# Altium integrated library NXP_60_26022015.IntLib: 1306 symbols (part 28 of 28)
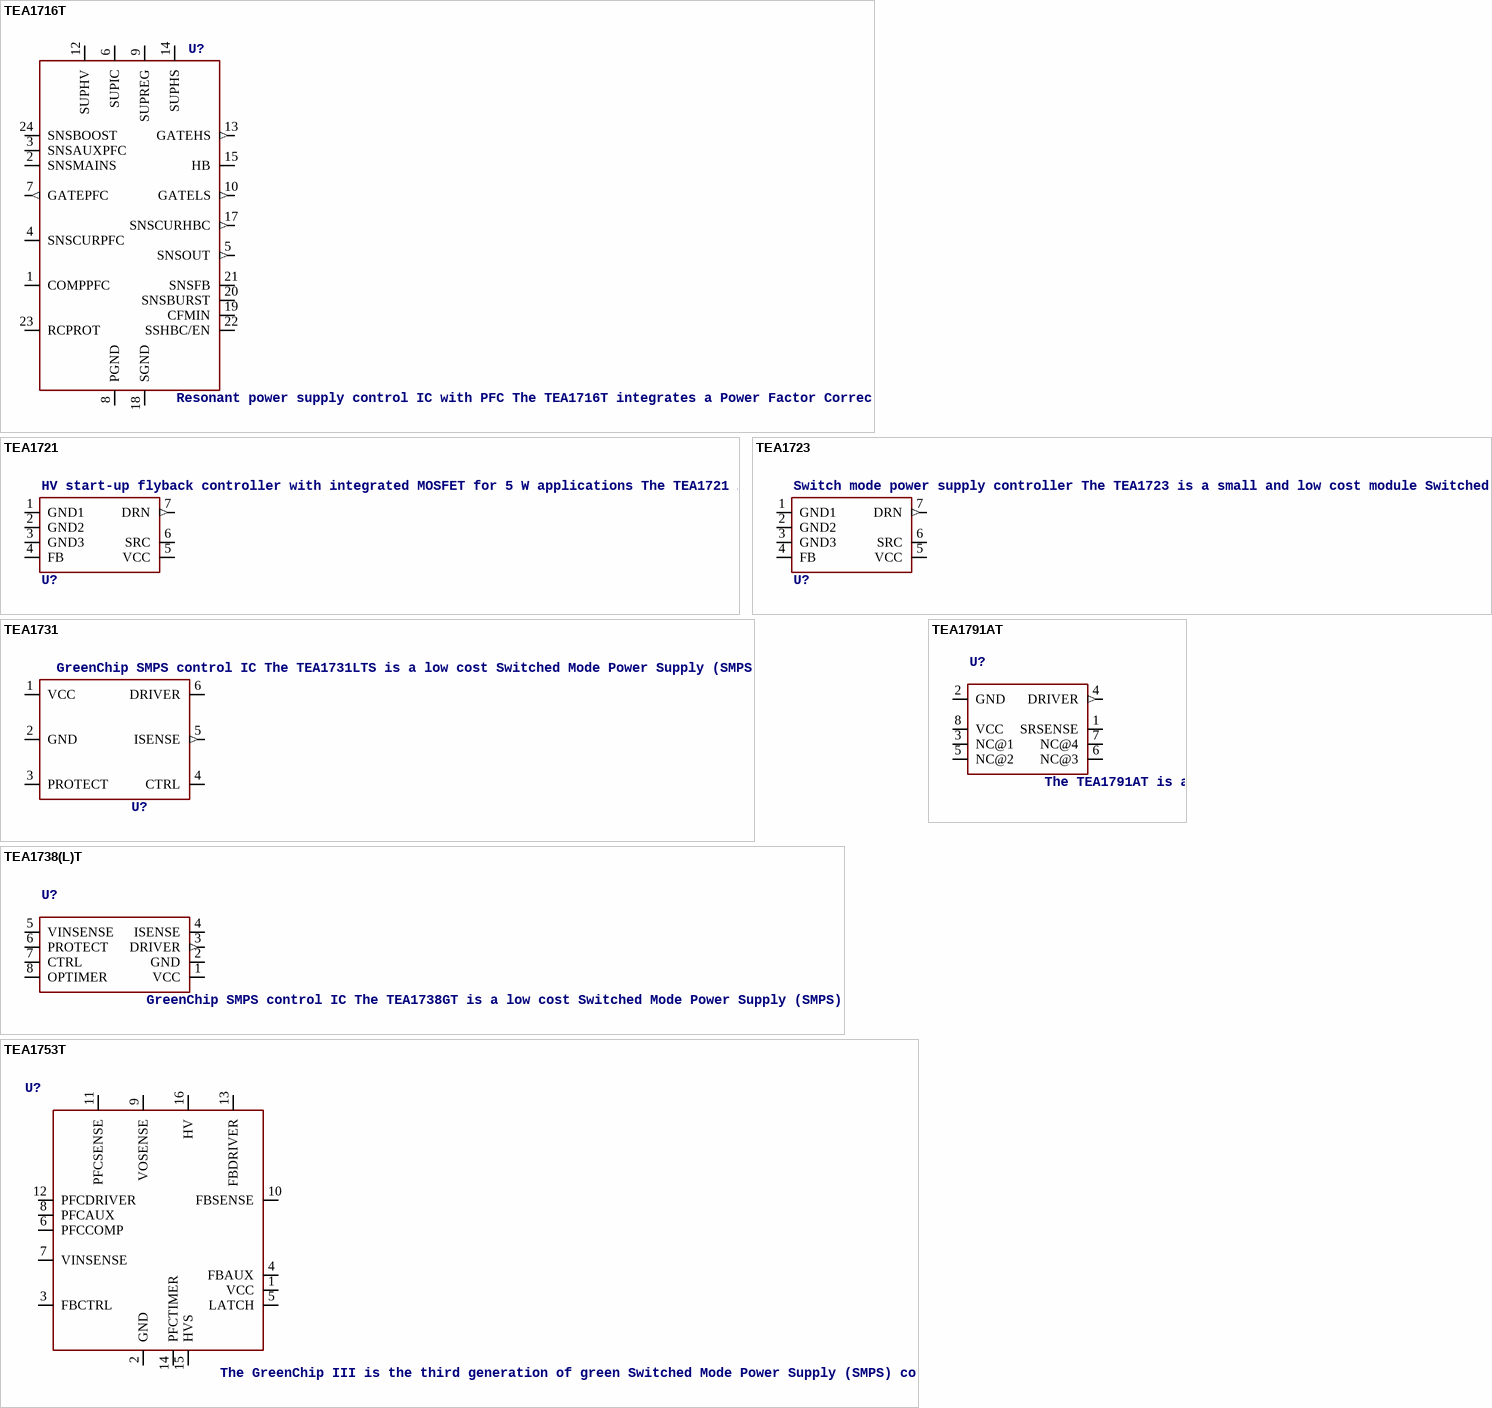
[diagram p212: symbols TEA1716T to TEA1791AT]

## TEA1753T
designator U?, comment The GreenChip III is the third generation of green Switched Mode Power Supply (SMPS) controller ICs. The GreenChip III combines a controller for Power Factor Correction (PFC) and a flyback controller. Its high level of integration allows the design of a cost-effective power supply with a very low number of external components.   AAL Eindhoven MK
12NC: 9352 932 05518
footprint SOT109-1
pins: 1 VCC, 2 GND, 3 FBCTRL, 4 FBAUX, 5 LATCH, 6 PFCCOMP, 7 VINSENSE, 8 PFCAUX, 9 VOSENSE, 10 FBSENSE, 11 PFCSENSE, 12 PFCDRIVER, 13 FBDRIVER, 14 PFCTIMER, 15 HVS, 16 HV

## TEA1791AT
designator U?, comment The TEA1791AT is a member of the new generation of Synchronous Rectifier (SR) controller ICs for switched mode power supplies. Its high level of integration allows the design of a cost-effective power supply with a very low number of external components.   AAL Eindhoven MK
12NC: 9352 901 57118
footprint SOT96-1
pins: 1 SRSENSE, 2 GND (power), 3 NC@1, 4 DRIVER (out), 5 NC@2, 6 NC@3, 7 NC@4, 8 VCC (power)

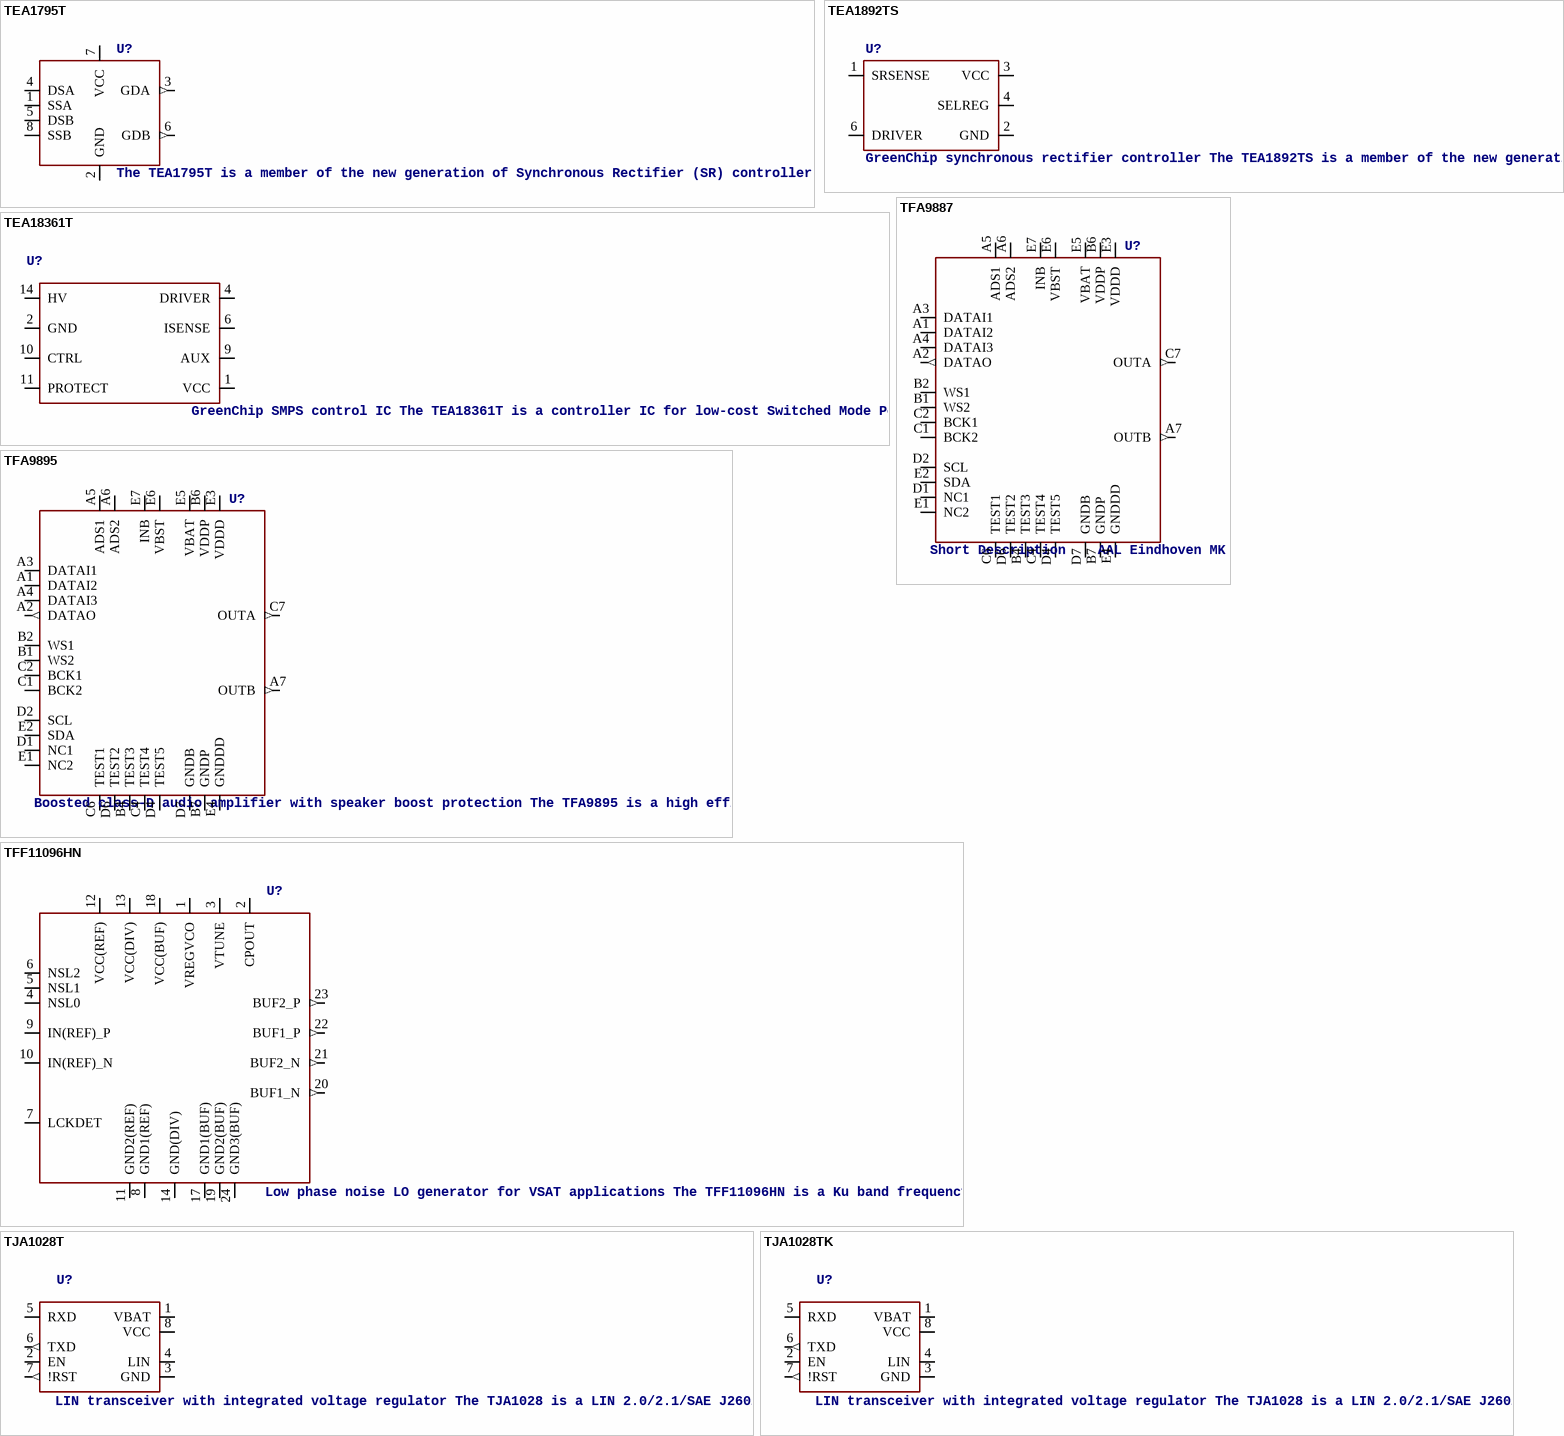
[diagram p182: symbols TEA1795T to TJA1028TK]

## TEA1795T
designator U?, comment The TEA1795T is a member of the new generation of Synchronous Rectifier (SR) controller ICs for switched mode power supplies. Its high level of integration enables the design of a cost-effective power supply with a minimum number of external components.   AAL Eindhoven MK
12NC: 9352 915 64118
footprint SOT96-1
pins: 1 SSA, 2 GND (power), 3 GDA (out), 4 DSA, 5 DSB, 6 GDB (out), 7 VCC (power), 8 SSB

## TEA1892TS
designator U?, comment GreenChip synchronous rectifier controller The TEA1892TS is a member of the new generation of Synchronous Rectifier (SR) controller ICs for switched mode power supplies. Its high level of integration allows the design of a cost-effective power supply with a very low number of external components. The TEA1892TS is a controller IC dedicated to synchronous rectification on the secondary side of discontinuous conduction mode and quasi-resonant flyback converters. The TEA1892TS is fabricated in a Silicon-On-Insulator (SOI) process.    AAL Eindhoven MK
footprint SOT457
pins: 1 SRSENSE, 2 GND (power), 3 VCC (power), 4 SELREG, 6 DRIVER

## TEA18361T
designator U?, comment GreenChip SMPS control IC The TEA18361T is a controller IC for low-cost Switched Mode Power Supplies (SMPS). It is intended for flyback topologies. The built-in green functions provide high efficiency at all power levels. At high power levels the flyback operates in Quasi-Resonant (QR) mode. At lower power levels, the controller switches to Frequency Reduction (FR) or Discontinuous Conduction Mode (DCM) and limits the peak current to approximately 25 % of the maximum peak current. Valley switching is used in all operating modes. At low power levels, when the flyback switching frequency drops below 25 kHz, the flyback converter switches to burst mode. A special burst mode has been integrated which reduces the opto current to a minimum level, ensuring high efficiency at low power and excellent no load power performance. As the switching frequency in this mode has a minimum value of 25 kHz while the burst frequency is below 800 Hz, the frequencies are outside the audible range. During the non-switching phase of the burst mode, the internal IC supply current is minimized for further efficiency optimization. The TEA18361T includes an accurate OverPower Protection (OPP). The OPP enables the controller to operate in overpower situations for a limited amount of time. If the output is shorted, the system switches to low-power mode where the output power is limited to a lower level. The TEA18361T is manufactured in a high-voltage Silicon-On-Insulator (SOI) process. The SOI process combines the advantages of a low-voltage process (accuracy, high-speed protection, functions, and control), while maintaining the high-voltage capabilities (high-voltage start-up, low standby power, and an integrated X-capacitor discharge function). The TEA18361T enables low-cost, highly efficient and reliable supplies for power requirements up to 75 W to be designed with a minimum number of external components.    AAL Eindhoven MK
footprint SOT108-1
pins: 1 VCC, 2 GND, 4 DRIVER, 6 ISENSE, 9 AUX, 10 CTRL, 11 PROTECT, 14 HV

## TFA9887
designator U?, comment Short Description    AAL Eindhoven MK
footprint WLCSP29
pins: A1 DATAI2, A2 DATAO (out), A3 DATAI1, A4 DATAI3, A5 ADS1, A6 ADS2, A7 OUTB (out), B1 WS2, B2 WS1, B4 TEST3, B6 VDDP (power), B7 GNDP (power), C1 BCK2, C2 BCK1, C4 TEST4, C6 TEST1, C7 OUTA (out), D1 NC1, D2 SCL, D4 TEST5, D6 TEST2, D7 GNDB (power), E1 NC2, E2 SDA, E3 VDDD (power), E4 GNDDD (power), E5 VBAT (power), E6 VBST (power), E7 INB (power)

## TFA9895
designator U?, comment Boosted class-D audio amplifier with speaker boost protection The TFA9895 is a high efficiency class-D audio amplifier with a sophisticated speaker boost protection algorithm that features multi-band compression. It can deliver 2.65 W (RMS; THD = 1 %) output power into a 4  speaker at a battery voltage of 3.6 V. The internal boost converter raises the supply voltage to 5.3 V, providing ample headroom for major improvements in sound quality. A safe working environment is provided for the speaker under all operating conditions. The TFA9895 maximizes acoustic output while ensuring diaphragm displacement and voice coil temperature do not exceed their rated limits. This function is based on a speaker box model that operates in all loudspeaker environments (e.g. free air, closed box or vented box). Furthermore, advanced signal processing ensures that the quality of the audio signal is never degraded by unwanted clipping or distortion in the amplifier or speaker. Unlike competing solutions, the adaptive sound maximizer algorithm uses feedback to accurately calculate both the temperature and the excursion, allowing the TFA9895 to adapt to changes in the acoustic environment. Internal intelligent DC-to-DC conversion boosts the supply rail to provide additional headroom and power output. The supply voltage is only raised when necessary. This precaution maximizes the output power of the class-D audio amplifier while limiting quiescent power consumption. The multi-band processing improves audio quality and apparent volume by allowing the gain to remain stable in most of the signal while the protection reacts to only those portions that would be unsafe. The TFA9895 also adds a high-frequency noise gate that improves the sound of poor-quality audio sources. The TFA9895 also incorporates advanced battery protection. By limiting the supply current when the battery voltage is low, it prevents the audio system drawing excessive load currents from the battery, which could cause a system undervoltage. The advanced processor minimizes the impact of a falling battery voltage on the audio quality by preventing distortion as the battery discharges. The device features low RF susceptibility because it has a digital input interface that is insensitive to clock jitter. The second order closed loop architecture used in a class-D audio amplifier provides excellent audio performance and high supply voltage ripple rejection. The audio input interface is I2S and the control settings are communicated via an I2C-bus interface. The TFA9895 is available in a 29-bump WLCSP (Wafer Level Chip-Size Package) with a 400 m pitch.    AAL Eindhoven MK
footprint WLCSP29
pins: A1 DATAI2, A2 DATAO (out), A3 DATAI1, A4 DATAI3, A5 ADS1, A6 ADS2, A7 OUTB (out), B1 WS2, B2 WS1, B4 TEST3, B6 VDDP (power), B7 GNDP (power), C1 BCK2, C2 BCK1, C4 TEST4, C6 TEST1, C7 OUTA (out), D1 NC1, D2 SCL, D4 TEST5, D6 TEST2, D7 GNDB (power), E1 NC2, E2 SDA, E3 VDDD (power), E4 GNDDD (power), E5 VBAT (power), E6 VBST (power), E7 INB (power)

## TFF11096HN
designator U?, comment Low phase noise LO generator for VSAT applications The TFF11096HN is a Ku band frequency generator intended for low phase noise Local Oscillator (LO) circuits for Ku band VSAT transmitters and transceivers. The specified phase noise complies with IESS-308 from Intelsat.    AAL Eindhoven MK
footprint SOT616-1
pins: 1 VREGVCO, 2 CPOUT, 3 VTUNE, 4 NSL0, 5 NSL1, 6 NSL2, 7 LCKDET, 8 GND1(REF) (power), 9 IN(REF)_P, 10 IN(REF)_N, 11 GND2(REF) (power), 12 VCC(REF) (power), 13 VCC(DIV) (power), 14 GND(DIV) (power), 17 GND1(BUF) (power), 18 VCC(BUF) (power), 19 GND2(BUF) (power), 20 BUF1_N (out), 21 BUF2_N (out), 22 BUF1_P (out), 23 BUF2_P (out), 24 GND3(BUF) (power)

## TJA1028T
designator U?, comment LIN transceiver with integrated voltage regulator The TJA1028 is a LIN 2.0/2.1/SAE J2602 transceiver with an integrated low-drop voltage regulator. The voltage regulator can deliver up to 70 mA and is available in 3.3 V and 5.0 V variants. TJA1028 facilitates the development of compact nodes in Local Interconnect Network (LIN) bus systems. To support robust designs, the TJA1028 offers strong ElectroStatic Discharge (ESD) performance and can withstand high voltages on the LIN bus. In order to minimize current consumption, the TJA1028 supports a Sleep mode in which the LIN transceiver and the voltage regulator are powered down while still having wake-up capability via the LIN bus. The TJA1028 comes in an SO8 package, and also in a 3 mm  3 mm HVSON8 package that reduces the required board space by over 70 %. This feature can prove extremely valuable when board space is limited.    AAL Eindhoven MK
footprint SOT96-1
pins: 1 VBAT (power), 2 EN, 3 GND (power), 4 LIN, 5 RXD, 6 TXD (out), 7 !RST (out), 8 VCC (power)

## TJA1028TK
designator U?, comment LIN transceiver with integrated voltage regulator The TJA1028 is a LIN 2.0/2.1/SAE J2602 transceiver with an integrated low-drop voltage regulator. The voltage regulator can deliver up to 70 mA and is available in 3.3 V and 5.0 V variants. TJA1028 facilitates the development of compact nodes in Local Interconnect Network (LIN) bus systems. To support robust designs, the TJA1028 offers strong ElectroStatic Discharge (ESD) performance and can withstand high voltages on the LIN bus. In order to minimize current consumption, the TJA1028 supports a Sleep mode in which the LIN transceiver and the voltage regulator are powered down while still having wake-up capability via the LIN bus. The TJA1028 comes in an SO8 package, and also in a 3 mm  3 mm HVSON8 package that reduces the required board space by over 70 %. This feature can prove extremely valuable when board space is limited.    AAL Eindhoven MK
footprint SOT782-1
pins: 1 VBAT (power), 2 EN, 3 GND (power), 4 LIN, 5 RXD, 6 TXD (out), 7 !RST (out), 8 VCC (power)

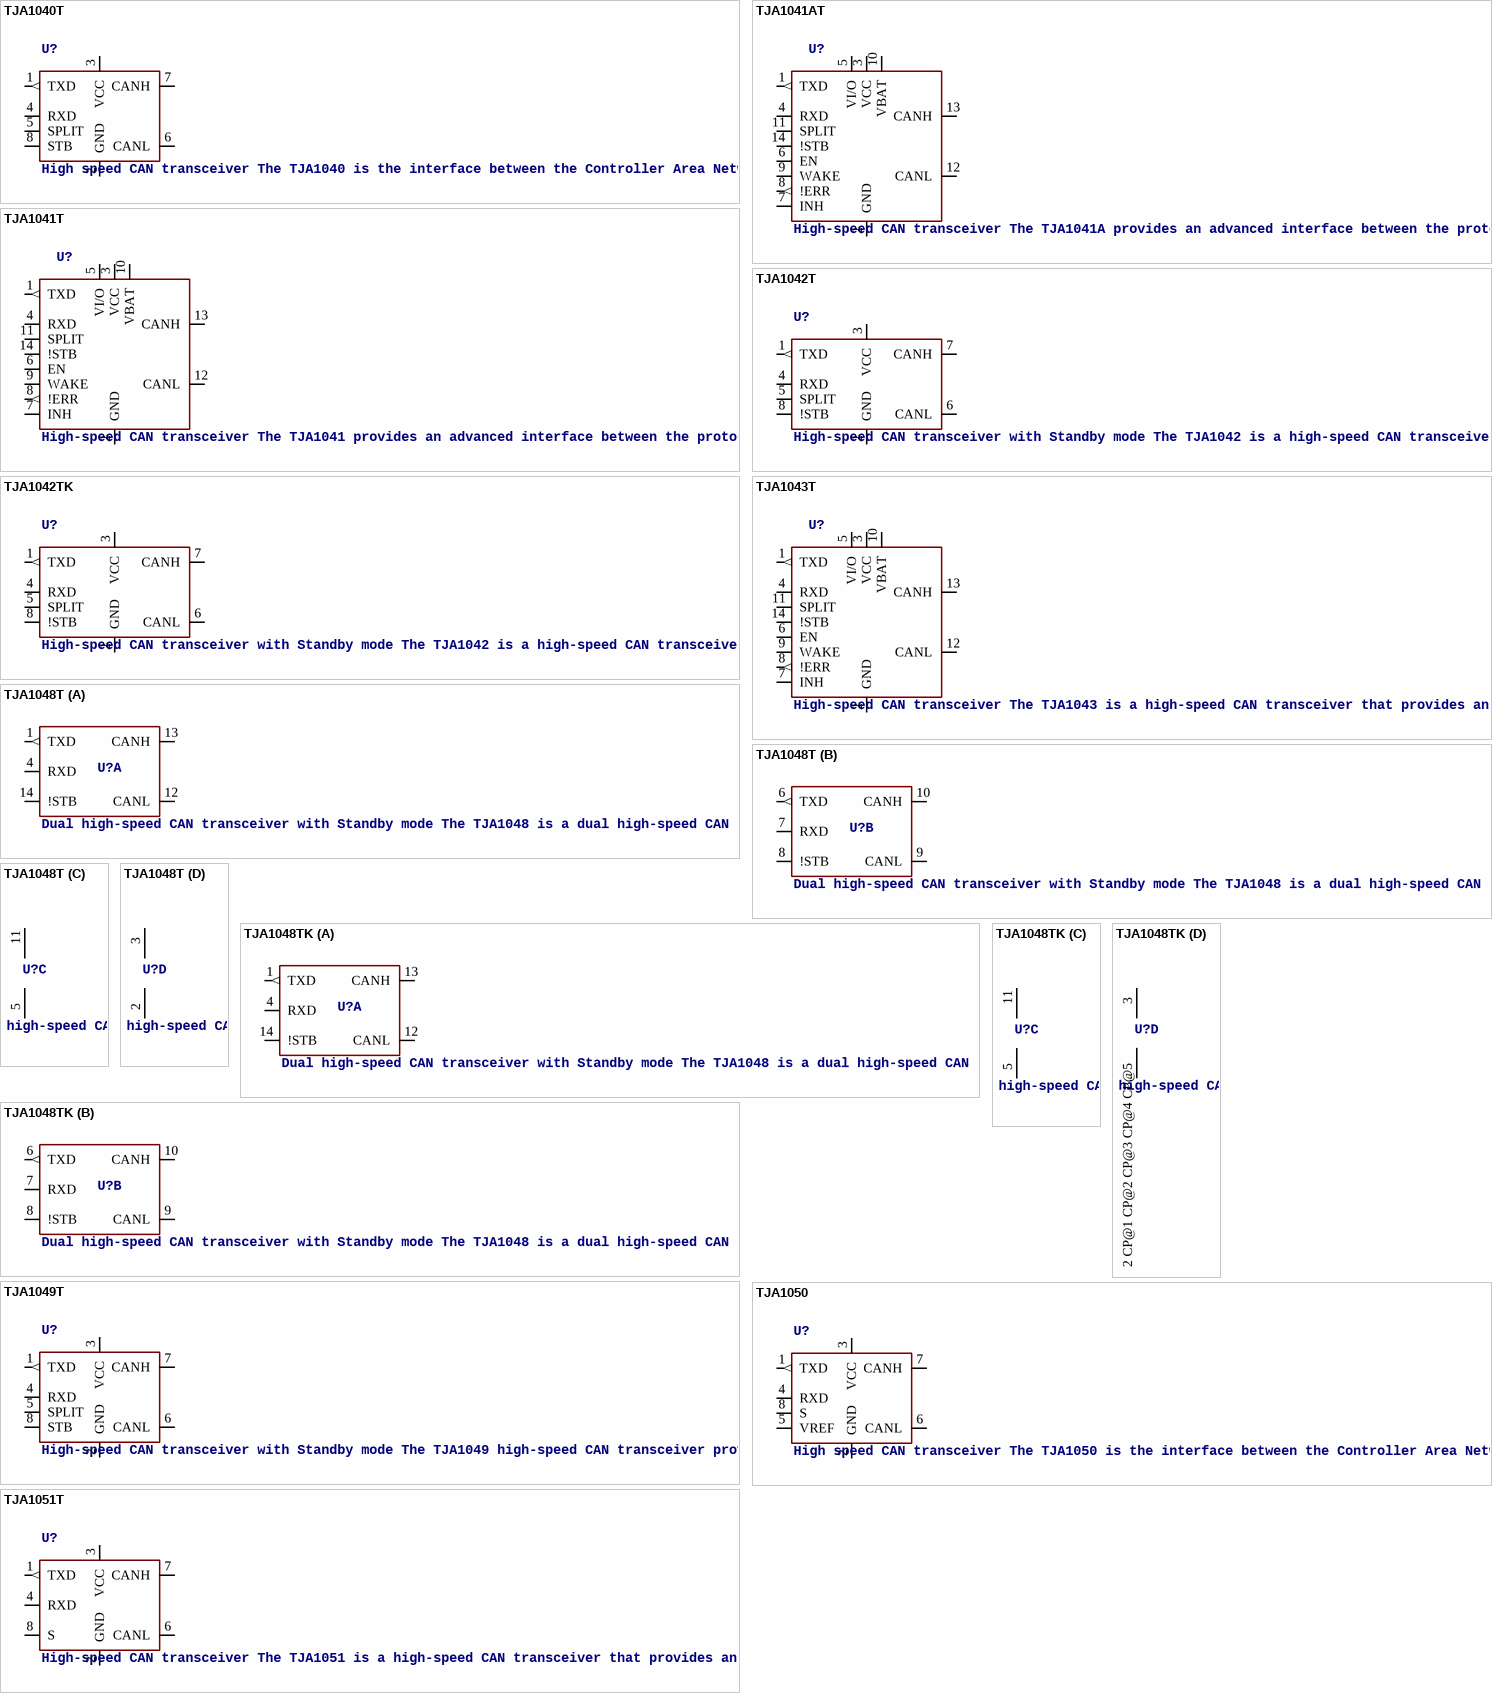
[diagram p183: symbols TJA1040T to TJA1051T]

## TJA1040T
designator U?, comment High speed CAN transceiver The TJA1040 is the interface between the Controller Area Network (CAN) protocol controller and the physical bus. It is primarily intended for high speed applications, up to 1 MBaud, in passenger cars. The device provides differential transmit capability to the bus and differential receive capability to the CAN controller. The TJA1040 is the next step up from the TJA1050 high speed CAN transceiver. Being pin compatible and offering the same excellent EMC performance, the TJA1040 also features:  An ideal passive behaviour when supply voltage is off  A very low-current standby mode with remote wake-upcapability via the bus.    This makes the TJA1040 an excellent choice in nodes which can be in power-down or standby mode in partially powered networks.    AAL Eindhoven MK
footprint SOT96-1
pins: 1 TXD (out), 2 GND, 3 VCC, 4 RXD, 5 SPLIT (power), 6 CANL, 7 CANH, 8 STB

## TJA1041AT
designator U?, comment High-speed CAN transceiver The TJA1041A provides an advanced interface between the protocol controller and the physical bus in a Controller Area Network (CAN) node. The TJA1041A is primarily intended for automotive high-speed CAN applications (up to 1 Mbit/s). The transceiver provides differential transmit capability to the bus and differential receive capability to the CAN controller. The TJA1041A is fully compatible to the ISO 11898 standard, and offers excellent ElectroMagnetic Compatibility (EMC) performance, very low power consumption, and passive behavior when supply voltage is off. The advanced features include: Low-power management, supporting local and remote wake-up with wake-up source recognition and the capability to control the power supply in the rest of the node  Several protection and diagnosis functions including short circuits of the bus lines and ﬁrst battery connection  Automatic adaptation of the I/O-levels, in line with the supply voltage of the controller      AAL Eindhoven MK
footprint SOT108-1
pins: 1 TXD (out), 2 GND (power), 3 VCC (power), 4 RXD, 5 VI/O (power), 6 EN, 7 INH, 8 !ERR (out), 9 WAKE, 10 VBAT (power), 11 SPLIT (power), 12 CANL, 13 CANH, 14 !STB

## TJA1041T
designator U?, comment High-speed CAN transceiver The TJA1041 provides an advanced interface between the protocol controller and the physical bus in a Controller Area Network (CAN) node. The TJA1041 is primarily intended for automotive high-speed CAN applications (up to 1 Mbit/s). The transceiver provides differential transmit capability to the bus and differential receive capability to the CAN controller. The TJA1041 is fully compatible to the ISO 11898 standard, and offers excellent ElectroMagnetic Compatibility (EMC) performance, very low power consumption, and passive behavior when supply voltage is off. The advanced features include: Low-power management, supporting local and remote wake-up with wake-up source recognition and the capability to control the power supply in the rest of the node  Several protection and diagnosis functions including short circuits of the bus lines and ﬁrst battery connection  Automatic adaptation of the I/O-levels, in line with the supply voltage of the controller      AAL Eindhoven MK
footprint SOT108-1
pins: 1 TXD (out), 2 GND (power), 3 VCC (power), 4 RXD, 5 VI/O (power), 6 EN, 7 INH, 8 !ERR (out), 9 WAKE, 10 VBAT (power), 11 SPLIT (power), 12 CANL, 13 CANH, 14 !STB

## TJA1042T
designator U?, comment High-speed CAN transceiver with Standby mode The TJA1042 is a high-speed CAN transceiver that provides an interface between a Controller Area Network (CAN) protocol controller and the physical two-wire CAN bus. The transceiver is designed for high-speed (up to 1 Mbit/s) CAN applications in the automotive industry, providing the differential transmit and receive capability to (a microcontroller with) a CAN protocol controller. The TJA1042 belongs to the third generation of high-speed CAN transceivers from NXP Semiconductors, offering significant improvements over first- and second-generation devices such as the TJA1040. It offers improved ElectroMagnetic Compatibility (EMC) and ElectroStatic Discharge (ESD) performance, and also features: Ideal passive behavior to the CAN bus when the supply voltage is off  A very low-current Standby mode with bus wake-up capability  TJA1042T/3 and TJA1042TK/3 can be interfaced directly to microcontrollers with supply  voltages  from  3 V to 5 V   These features make the TJA1042 an excellent choice for all types of HS-CAN networks, in nodes that require a low-power mode with wake-up capability via the CAN bus.    AAL Eindhoven MK
footprint SOT96-1
pins: 1 TXD (out), 2 GND (power), 3 VCC (power), 4 RXD, 5 SPLIT (power), 6 CANL, 7 CANH, 8 !STB

## TJA1042TK
designator U?, comment High-speed CAN transceiver with Standby mode The TJA1042 is a high-speed CAN transceiver that provides an interface between a Controller Area Network (CAN) protocol controller and the physical two-wire CAN bus. The transceiver is designed for high-speed (up to 1 Mbit/s) CAN applications in the automotive industry, providing the differential transmit and receive capability to (a microcontroller with) a CAN protocol controller. The TJA1042 belongs to the third generation of high-speed CAN transceivers from NXP Semiconductors, offering significant improvements over first- and second-generation devices such as the TJA1040. It offers improved ElectroMagnetic Compatibility (EMC) and ElectroStatic Discharge (ESD) performance, and also features: Ideal passive behavior to the CAN bus when the supply voltage is off  A very low-current Standby mode with bus wake-up capability  TJA1042T/3 and TJA1042TK/3 can be interfaced directly to microcontrollers with supply  voltages  from  3 V to 5 V   These features make the TJA1042 an excellent choice for all types of HS-CAN networks, in nodes that require a low-power mode with wake-up capability via the CAN bus.    AAL Eindhoven MK
footprint SOT782-1
pins: 1 TXD (out), 2 GND (power), 3 VCC (power), 4 RXD, 5 SPLIT (power), 6 CANL, 7 CANH, 8 !STB

## TJA1043T
designator U?, comment High-speed CAN transceiver The TJA1043 is a high-speed CAN transceiver that provides an interface between a Controller Area Network (CAN) protocol controller and the physical two-wire CAN bus. The transceiver is designed for high-speed (up to 1 Mbit/s) CAN applications in the automotive industry, providing differential transmit and receive capability to (a microcontroller with) a CAN protocol controller. The TJA1043 belongs to the third generation of high-speed CAN transceivers from NXP Semiconductors, offering significant improvements over first- and second-generation devices such as the TJA1041A. It offers improved ElectroMagnetic Compatibility (EMC) and ElectroMagnetic Discharge (ESD) performance, very low power consumption, and passive behavior when the supply voltage is turned off. Advanced features include:  Low-power management controls the power supply throughout the node while supporting local and remote wake-up with wake-up source recognition  Several protection and diagnostic functions including bus line short-circuit detection and battery connection detection  Can be interfaced directly to microcontrollers with supply voltages from 3 V to 5 V   These features make the TJA1043 the ideal choice for high speed CAN networks containing nodes that need to be available all times, even when the internal VIO and VCC supplies are switched off.    AAL Eindhoven MK
footprint SOT108-1
pins: 1 TXD (out), 2 GND (power), 3 VCC (power), 4 RXD, 5 VI/O (power), 6 EN, 7 INH, 8 !ERR (out), 9 WAKE, 10 VBAT (power), 11 SPLIT (power), 12 CANL, 13 CANH, 14 !STB

## TJA1048T
designator U?, comment Dual high-speed CAN transceiver with Standby mode The TJA1048 is a dual high-speed CAN transceiver that provides an interface between a Controller Area Network (CAN) protocol controller and the physical two-wire CAN bus. The transceiver is designed for high-speed (up to 1 Mbit/s) CAN applications in the automotive industry, providing the differential transmit and receive capability to (a microcontroller with) a CAN protocol controller. The TJA1048 belongs to the third generation of high-speed CAN transceivers from NXP Semiconductors, offering significant improvements over first- and second-generation devices such as the TJA1040. It offers improved Electro Magnetic Compatibility (EMC) and ElectroStatic Discharge (ESD) performance, and also features: Ideal passive behavior to the CAN bus when the supply voltage is off  A very low-current Standby mode with bus wake-up capability on both channels  TJA1048T can be interfaced directly to microcontrollers with supply voltages from 3 V to 5 V   These features make the TJA1048 an excellent choice for all types of HS-CAN networks containing more than one HS-CAN interface that require a low-power mode with wake-up capability via the CAN bus, especially for Body Control and Gateway units.    AAL Eindhoven MK
footprint SOT108-1
part A pins: 1 TXD (out), 4 RXD, 12 CANL, 13 CANH, 14 !STB
part B pins: 6 TXD (out), 7 RXD, 8 !STB, 9 CANL, 10 CANH
part C pins: 5 GND (power), 11 VI/O (power)
part D pins: 2 GND (power), 3 VCC (power)

## TJA1048TK
designator U?, comment Dual high-speed CAN transceiver with Standby mode The TJA1048 is a dual high-speed CAN transceiver that provides an interface between a Controller Area Network (CAN) protocol controller and the physical two-wire CAN bus. The transceiver is designed for high-speed (up to 1 Mbit/s) CAN applications in the automotive industry, providing the differential transmit and receive capability to (a microcontroller with) a CAN protocol controller. The TJA1048 belongs to the third generation of high-speed CAN transceivers from NXP Semiconductors, offering significant improvements over first- and second-generation devices such as the TJA1040. It offers improved Electro Magnetic Compatibility (EMC) and ElectroStatic Discharge (ESD) performance, and also features: Ideal passive behavior to the CAN bus when the supply voltage is off  A very low-current Standby mode with bus wake-up capability on both channels  TJA1048T can be interfaced directly to microcontrollers with supply voltages from 3 V to 5 V   These features make the TJA1048 an excellent choice for all types of HS-CAN networks containing more than one HS-CAN interface that require a low-power mode with wake-up capability via the CAN bus, especially for Body Control and Gateway units.    AAL Eindhoven MK
footprint SOT1086-2
part A pins: 1 TXD (out), 4 RXD, 12 CANL, 13 CANH, 14 !STB
part B pins: 6 TXD (out), 7 RXD, 8 !STB, 9 CANL, 10 CANH
part C pins: 5 GND (power), 11 VI/O (power)
part D pins: 2 CP@1 CP@2 CP@3 CP@4 CP@5 GND (power), 3 VCC (power)

## TJA1049T
designator U?, comment High-speed CAN transceiver with Standby mode The TJA1049 high-speed CAN transceiver provides an interface between a Controller Area Network (CAN) protocol controller and the physical two-wire CAN bus. The transceiver is designed for high-speed (up to 1 Mbit/s) CAN applications in the automotive industry, supplying the differential transmit and receive capability to (a microcontroller with) a CAN protocol controller. The TJA1049 belongs to the third generation of high-speed CAN transceivers from NXP Semiconductors, offering significant improvements over first- and second-generation devices such as the TJA1040. It offers improved ElectroMagnetic Compatibility (EMC) and ElectroStatic Discharge (ESD) performance, and also features: Ideal passive behavior to the CAN bus when the supply voltage is off  A very low-current Standby mode with bus wake-up capability   These features make the TJA1049 an excellent choice for all types of HS-CAN networks, in nodes that require a low-power mode with wake-up capability via the CAN bus.    AAL Eindhoven MK
footprint SOT96-1
pins: 1 TXD (out), 2 GND, 3 VCC, 4 RXD, 5 SPLIT (power), 6 CANL, 7 CANH, 8 STB

## TJA1050
designator U?, comment High speed CAN transceiver The TJA1050 is the interface between the Controller Area Network (CAN) protocol controller and the physical bus. The device provides differential transmit capability to the bus and differential receive capability to the CAN controller. The TJA1050 is the third Philips high-speed CAN transceiver after the PCA82C250 and the PCA82C251. The most important differences are: Much lower electromagnetic emission due to optimal matching of the output signals CANH and CANL  Improved behaviour in case of an unpowered node  No standby mode.   This makes the TJA1050 eminently suitable for use in nodes that are in a power-down situation in partially powered networks.    AAL Eindhoven MK
footprint SOT96-1
pins: 1 TXD (out), 2 GND, 3 VCC, 4 RXD, 5 VREF, 6 CANL, 7 CANH, 8 S (power)

## TJA1051T
designator U?, comment High-speed CAN transceiver The TJA1051 is a high-speed CAN transceiver that provides an interface between a Controller Area Network (CAN) protocol controller and the physical two-wire CAN bus. The transceiver is designed for high-speed (up to 1 Mbit/s) CAN applications in the automotive industry, providing differential transmit and receive capability to (a microcontroller with) a CAN protocol controller. The TJA1051 belongs to the third generation of high-speed CAN transceivers from NXP Semiconductors, offering significant improvements over first- and second-generation devices such as the TJA1050. It offers improved ElectroMagnetic Compatibility (EMC) and ElectroStatic Discharge (ESD) performance, and also features: Ideal passive behavior to the CAN bus when the supply voltage is off  TJA1051T/3 and TJA1051TK/3 can be interfaced directly to microcontrollers with supply  voltages  from  3 V to 5 V   These features make the TJA1051 an excellent choice for all types of HS-CAN networks, in nodes that do not require a standby mode with wake-up capability via the bus.    AAL Eindhoven MK
footprint SOT96-1
pins: 1 TXD (out), 2 GND, 3 VCC, 4 RXD, 6 CANL, 7 CANH, 8 S (power)

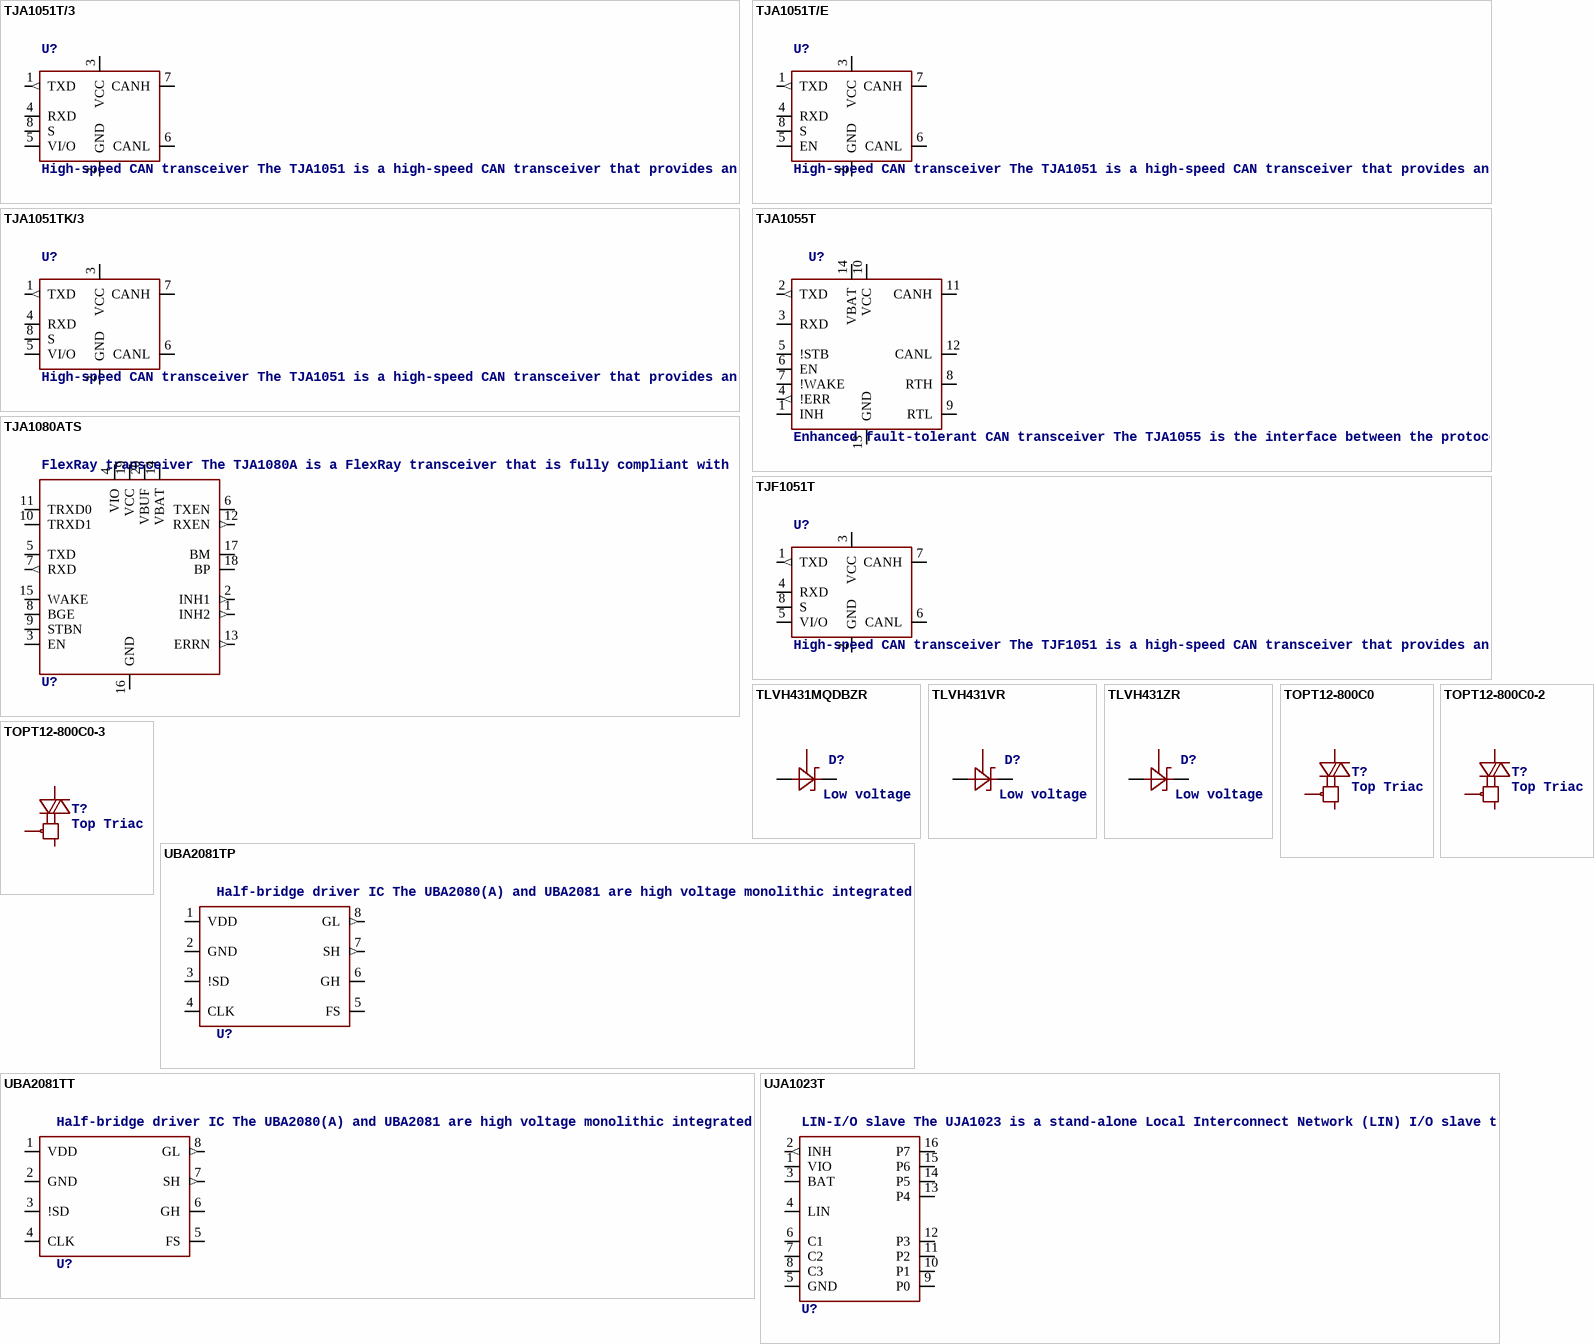
[diagram p184: symbols TJA1051T/3 to UJA1023T]

## TJA1051T/3
designator U?, comment High-speed CAN transceiver The TJA1051 is a high-speed CAN transceiver that provides an interface between a Controller Area Network (CAN) protocol controller and the physical two-wire CAN bus. The transceiver is designed for high-speed (up to 1 Mbit/s) CAN applications in the automotive industry, providing differential transmit and receive capability to (a microcontroller with) a CAN protocol controller. The TJA1051 belongs to the third generation of high-speed CAN transceivers from NXP Semiconductors, offering significant improvements over first- and second-generation devices such as the TJA1050. It offers improved ElectroMagnetic Compatibility (EMC) and ElectroStatic Discharge (ESD) performance, and also features: Ideal passive behavior to the CAN bus when the supply voltage is off  TJA1051T/3 and TJA1051TK/3 can be interfaced directly to microcontrollers with supply  voltages  from  3 V to 5 V   These features make the TJA1051 an excellent choice for all types of HS-CAN networks, in nodes that do not require a standby mode with wake-up capability via the bus.    AAL Eindhoven MK
footprint SOT96-1
pins: 1 TXD (out), 2 GND, 3 VCC, 4 RXD, 5 VI/O, 6 CANL, 7 CANH, 8 S (power)

## TJA1051T/E
designator U?, comment High-speed CAN transceiver The TJA1051 is a high-speed CAN transceiver that provides an interface between a Controller Area Network (CAN) protocol controller and the physical two-wire CAN bus. The transceiver is designed for high-speed (up to 1 Mbit/s) CAN applications in the automotive industry, providing differential transmit and receive capability to (a microcontroller with) a CAN protocol controller. The TJA1051 belongs to the third generation of high-speed CAN transceivers from NXP Semiconductors, offering significant improvements over first- and second-generation devices such as the TJA1050. It offers improved ElectroMagnetic Compatibility (EMC) and ElectroStatic Discharge (ESD) performance, and also features: Ideal passive behavior to the CAN bus when the supply voltage is off  TJA1051T/3 and TJA1051TK/3 can be interfaced directly to microcontrollers with supply  voltages  from  3 V to 5 V   These features make the TJA1051 an excellent choice for all types of HS-CAN networks, in nodes that do not require a standby mode with wake-up capability via the bus.    AAL Eindhoven MK
footprint SOT96-1
pins: 1 TXD (out), 2 GND, 3 VCC, 4 RXD, 5 EN, 6 CANL, 7 CANH, 8 S (power)

## TJA1051TK/3
designator U?, comment High-speed CAN transceiver The TJA1051 is a high-speed CAN transceiver that provides an interface between a Controller Area Network (CAN) protocol controller and the physical two-wire CAN bus. The transceiver is designed for high-speed (up to 1 Mbit/s) CAN applications in the automotive industry, providing differential transmit and receive capability to (a microcontroller with) a CAN protocol controller. The TJA1051 belongs to the third generation of high-speed CAN transceivers from NXP Semiconductors, offering significant improvements over first- and second-generation devices such as the TJA1050. It offers improved ElectroMagnetic Compatibility (EMC) and ElectroStatic Discharge (ESD) performance, and also features: Ideal passive behavior to the CAN bus when the supply voltage is off  TJA1051T/3 and TJA1051TK/3 can be interfaced directly to microcontrollers with supply  voltages  from  3 V to 5 V   These features make the TJA1051 an excellent choice for all types of HS-CAN networks, in nodes that do not require a standby mode with wake-up capability via the bus.    AAL Eindhoven MK
footprint SOT782-1
pins: 1 TXD (out), 2 GND, 3 VCC, 4 RXD, 5 VI/O, 6 CANL, 7 CANH, 8 S (power)

## TJA1055T
designator U?, comment Enhanced fault-tolerant CAN transceiver The TJA1055 is the interface between the protocol controller and the physical bus wires in a Controller Area Network (CAN). It is primarily intended for low-speed applications up to 125 kBd in passenger cars. The device provides differential receive and transmit capability but will switch to single-wire transmitter and/or receiver in error conditions. The TJA1055 is the enhanced version of the TJA1054 and TJA1054A. TJA1055 has the same functionality but in addition offering a number of improvements. The most important improvements of the TJA1055 with respect to the TJA1054 and TJA1054A are:  Improved ElectroStatic Discharge (ESD) performance  Lower current consumption in sleep mode  Wake-up signalling on RXD and ERR without VCC active  3 V interfacing with microcontroller possible with TJA1055T/3      AAL Eindhoven MK
footprint SOT108-1
pins: 1 INH, 2 TXD (out), 3 RXD, 4 !ERR (out), 5 !STB, 6 EN, 7 !WAKE, 8 RTH, 9 RTL, 10 VCC (power), 11 CANH, 12 CANL, 13 GND (power), 14 VBAT (power)

## TJA1080ATS
designator U?, comment FlexRay transceiver The TJA1080A is a FlexRay transceiver that is fully compliant with the FlexRay electrical physical layer specification V2.1 Rev. A. In addition, it incorporates features and parameters included in V3.0.1. It is primarily intended for communication systems from 1 Mbit/s to 10 Mbit/s, and provides an advanced interface between the protocol controller and the physical bus in a FlexRay network. The TJA1080A can be configured to be used as an active star transceiver or as a node transceiver. The TJA1080A provides differential transmit capability to the network and differential receive capability to the FlexRay controller. It offers excellent EMC performance as well as high ESD protection. The TJA1080A actively monitors the system performance using dedicated error and status information (readable by any microcontroller), as well as internal voltage and temperature monitoring. The TJA1080A supports the mode control as used in NXP Semiconductors TJA1054 and TJA1041 CAN transceivers. The TJA1080A is the next step up from the TJA1080 FlexRay transceiver. Being fully pin compatible and offering the same excellent ESD protection, the TJA1080A also features:  Improved power-on reset concept  Improved ElectroMagnetic Emission (EME)   Support of 60 ns minimum bit time  Improved bus error detection functionality   This makes the TJA1080A an excellent choice in any kind of FlexRay node. See Section 14 for a detailed overview of differences between the TJA1080 and the TJA1080A.    AAL Eindhoven MK
footprint SOT339
pins: 1 INH2 (out), 2 INH1 (out), 3 EN, 4 VIO (power), 5 TXD, 6 TXEN, 7 RXD (out), 8 BGE, 9 STBN, 10 TRXD1, 11 TRXD0, 12 RXEN (out), 13 ERRN (out), 14 VBAT (power), 15 WAKE, 16 GND (power), 17 BM, 18 BP, 19 VCC (power), 20 VBUF (power)

## TJF1051T
designator U?, comment High-speed CAN transceiver The TJF1051 is a high-speed CAN transceiver that provides an interface between a Controller Area Network (CAN) protocol controller and the physical two-wire CAN bus. The transceiver is designed for high-speed (up to 1 Mbit/s) CAN industrial applications, providing differential transmit and receive capability to (a microcontroller with) a CAN protocol controller. The TJF1051 belongs to the third generation of high-speed CAN transceivers from NXP Semiconductors, offering significant improvements over first- and second-generation devices such as the TJA1050. It offers improved ElectroMagnetic Compatibility (EMC) and ElectroStatic Discharge (ESD) performance, and also features ideal passive behavior to the CAN bus when the supply voltage is off. The TJF1051 can be interfaced directly to microcontrollers with supply voltages from 3 V to 5 V These features make the TJF1051 an excellent choice for all types of HS-CAN networks, in nodes that do not require a standby mode with wake-up capability via the bus.    AAL Eindhoven MK
footprint SOT96-1
pins: 1 TXD (out), 2 GND, 3 VCC, 4 RXD, 5 VI/O, 6 CANL, 7 CANH, 8 S (power)

## TLVH431MQDBZR
designator D?, comment Low voltage adjustable precision shunt regulators Low voltage three-terminal shunt regulator family with an output voltage range between Vref (1.24 V) and 18 V, to be set by two external resistors.    AAL Eindhoven MK
12NC: 9352 930 33215; MIRRORED: YES; TEMPERATURE_RANGE: -40C to 125C; TOLERANCE: 1.5%; 12NC: 9352 930 34215; TOLERANCE: 1%; 12NC: 9352 957 31215; TOLERANCE: 0.75%; FARNELL: -
footprint SOT23
pins: 1 K, 2 REF, 3 A

## TLVH431VR
designator D?, comment Low voltage adjustable precision shunt regulators Low voltage three-terminal shunt regulator family with an output voltage range between Vref (1.24 V) and 18 V, to be set by two external resistors.    AAL Eindhoven MK
12NC: 9352 949 17125; MIRORRED: NO; TOLERANCE: 1%; 12NC: 9352 971 91125; TOLERANCE: 0.75%; 12NC: 9352 949 14125; TOLERANCE: 1.5%; FARNELL: 2143335; TEMPERATURE: 40C to 125C; FARNELL: -
footprint SOT753
pins: 3 K, 4 REF, 5 A

## TLVH431ZR
designator D?, comment Low voltage adjustable precision shunt regulators Low voltage three-terminal shunt regulator family with an output voltage range between Vref (1.24 V) and 18 V, to be set by two external resistors.    AAL Eindhoven MK
12NC: 9352 930 25215; MIRRORED: NO; TEMPERATURE_RANGE: 0C to 70C; TOLERANCE: 1%; 12NC: 9352 930 26215; TEMPERATURE_RANGE: -40C to 85C; 12NC: 9352 930 27215; TEMPERATURE_RANGE: -40C to 125C; 12NC: 9352 930 22215; TOLERANCE: 1.5%; 12NC: 9352 957 29215; TOLERANCE: 0.75%; 12NC: 9352 930 23215; 12NC: 9352 930 24215; FARNELL: 2143332; FARNELL: 2143333; FARNELL: -; FARNELL: 2143337
footprint SOT23
pins: 1 REF, 2 K, 3 A

## TOPT12-800C0
designator T?, comment Top Triac Planar passivated Temperature and Overload Protected Triac with high commutation performance in a SOT78 (TO-220AB) plastic package. This TOPTriac TM  conveniently self protects by turning off in the event of excessive temperature. It is triggered negatively, which can be continuous DC or pulsed.    AAL Eindhoven MK
footprint SOT78
pins: 1 CM, 2 LD, 3 G

## TOPT12-800C0-2
designator T?, comment Top Triac Planar passivated Temperature and Overload Protected Triac with high commutation performance in a SOT78 (TO-220AB) plastic package. This TOPTriac TM  conveniently self protects by turning off in the event of excessive temperature. It is triggered negatively, which can be continuous DC or pulsed.    AAL Eindhoven MK
footprint SOT78A
pins: 1 CM, 2 LD, 3 G

## TOPT12-800C0-3
designator T?, comment Top Triac Planar passivated Temperature and Overload Protected Triac with high commutation performance in a SOT78 (TO-220AB) plastic package. This TOPTriac TM  conveniently self protects by turning off in the event of excessive temperature. It is triggered negatively, which can be continuous DC or pulsed.    AAL Eindhoven MK
footprint SOT78-2
pins: 1 CM, 2 LD, 3 G

## UBA2081TP
designator U?, comment Half-bridge driver IC The UBA2080(A) and UBA2081 are high voltage monolithic integrated circuits made using the latch-up free Silicon-On-Insulator (SOI) process. The circuit is designed for driving MOSFETs in a half-bridge configuration.    AAL Eindhoven MK
footprint SOT97-1
pins: 1 VDD (power), 2 GND (power), 3 !SD, 4 CLK, 5 FS, 6 GH, 7 SH (out), 8 GL (out)

## UBA2081TT
designator U?, comment Half-bridge driver IC The UBA2080(A) and UBA2081 are high voltage monolithic integrated circuits made using the latch-up free Silicon-On-Insulator (SOI) process. The circuit is designed for driving MOSFETs in a half-bridge configuration.    AAL Eindhoven MK
footprint SOT96-1
pins: 1 VDD (power), 2 GND (power), 3 !SD, 4 CLK, 5 FS, 6 GH, 7 SH (out), 8 GL (out)

## UJA1023T
designator U?, comment LIN-I/O slave The UJA1023 is a stand-alone Local Interconnect Network (LIN) I/O slave that replaces basic components commonly used in electronic control units for input and output handling. The UJA1023 contains a LIN 2.0 controller, an integrated LIN transceiver which is LIN 2.0 / SAE J2602 compliant and LIN 1.3 compatible, a 30 kΩ termination resistor necessary for LIN-slaves, and eight I/O ports which are configurable via the LIN bus. An automatic bit rate synchronization circuit adapts to any (master) bit rate between 1 kbit/s and 20 kbit/s. For this, an oscillator is integrated. The LIN protocol will be handled autonomously and both Node Address (NAD) and LIN frame Identifier (ID) programming will be done by a master request and an optional slave response message in combination with a daisy chain or plug coding function.    AAL Eindhoven MK
footprint SOT109-1
pins: 1 VIO (power), 2 INH (out), 3 BAT (power), 4 LIN, 5 GND (power), 6 C1, 7 C2, 8 C3, 9 P0, 10 P1, 11 P2, 12 P3, 13 P4, 14 P5, 15 P6, 16 P7

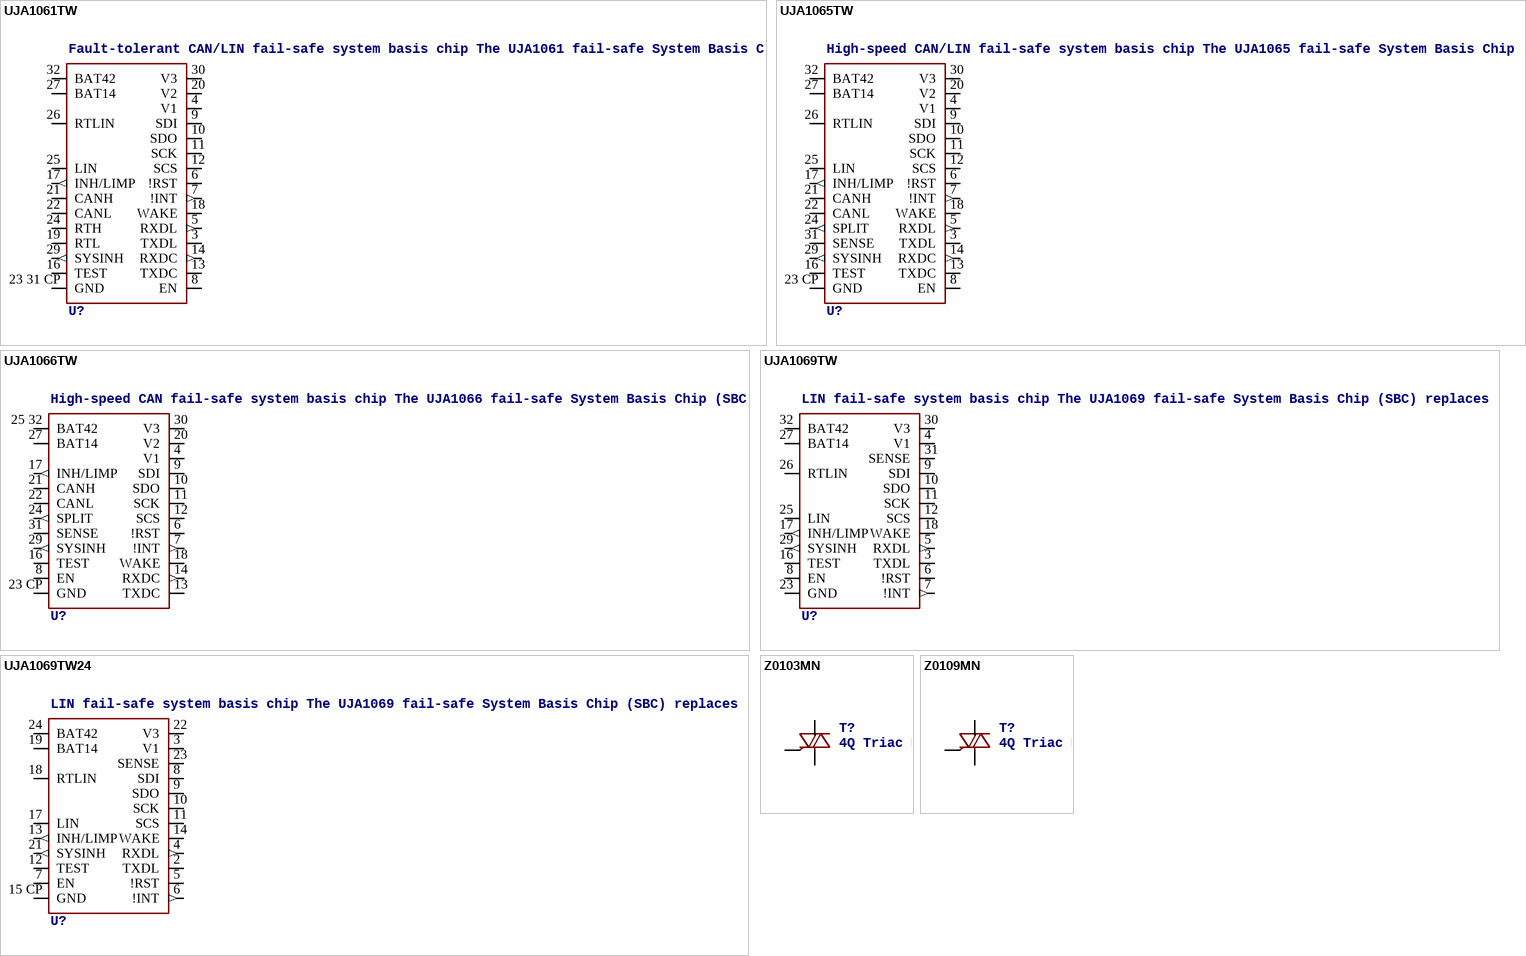
[diagram p185: symbols UJA1061TW to Z0109MN]

## UJA1061TW
designator U?, comment Fault-tolerant CAN/LIN fail-safe system basis chip The UJA1061 fail-safe System Basis Chip (SBC) replaces basic discrete components that are common in every Electronic Control Unit (ECU) with a Controller Area Network (CAN) and a Local Interconnect Network (LIN) interface. The fail-safe SBC supports all networking applications that control various power and sensor peripherals by using fault-tolerant CAN as the main network interface and LIN as a local sub-bus. The fail-safe SBC contains the following integrated devices: ISO11898-3 compliant fault-tolerant CAN transceiver, interoperable with TJA1054, TJA1054A and TJA1055  LIN transceiver compliant with LIN 2.0 and SAE J2602, and compatible with LIN 1.3  Advanced independent watchdog  Dedicated voltage regulators for microcontroller and CAN transceiver  Serial peripheral interface (full duplex)  Local wake-up input port  Inhibit/limp-home output port   In addition to the advantages of integrating these common ECU functions in a single package, the fail-safe SBC offers an intelligent combination of system-specific functions such as: Advanced low-power concept  Safe and controlled system start-up behavior  Advanced fail-safe system behavior that prevents any conceivable deadlock  Detailed status reporting on system and subsystem levels   The UJA1061 is designed to be used in combination with a microcontroller that incorporates a CAN controller. The fail-safe SBC ensures that the microcontroller is always started up in a defined manner. In failure situations, the fail-safe SBC will maintain microcontroller functionality for as long as possible to provide full monitoring and a software-driven fall-back operation. The UJA1061 is designed for 14 V single power supply architectures and for 14 V and 42 V dual power supply architectures.    AAL Eindhoven MK
footprint SOT549-1
pins: 3 TXDL, 4 V1 (power), 5 RXDL (out), 6 !RST, 7 !INT (out), 8 EN, 9 SDI, 10 SDO, 11 SCK, 12 SCS, 13 TXDC, 14 RXDC (out), 16 TEST, 17 INH/LIMP (out), 18 WAKE, 19 RTL, 20 V2 (power), 21 CANH, 22 CANL, 23 31 CP GND (power), 24 RTH, 25 LIN, 26 RTLIN, 27 BAT14 (power), 29 SYSINH (out), 30 V3 (power), 32 BAT42 (power)

## UJA1065TW
designator U?, comment High-speed CAN/LIN fail-safe system basis chip The UJA1065 fail-safe System Basis Chip (SBC) replaces basic discrete components that are common in every Electronic Control Unit (ECU) with a Controller Area Network (CAN) and a Local Interconnect Network (LIN) interface. The fail-safe SBC supports all networking applications that control various power and sensor peripherals by using high-speed CAN as the main network interface and LIN as a local sub-bus. The fail-safe SBC contains the following integrated devices: • High-speed CAN transceiver, interoperable and downward compatible with CAN transceivers TJA1041 and TJA1041A, and compatible with the ISO 11898-2 standard and the ISO 11898-5 standard (in preparation)  LIN transceiver compliant with LIN 2.0 and SAE J2602, and compatible with LIN 1.3  Advanced independent watchdog  Dedicated voltage regulators for microcontroller and CAN transceiver  Serial peripheral interface (full duplex)  Local wake-up input port  Inhibit/limp-home output port    In addition to the advantages of integrating these common ECU functions in a single package, the fail-safe SBC offers an intelligent combination of system-specific functions such as:  Advanced low-power concept  Safe and controlled system start-up behavior  Advanced fail-safe system behavior that prevents any conceivable deadlock  Detailed status reporting on system and subsystem levels   The UJA1065 is designed to be used in combination with a microcontroller that incorporates a CAN controller. The fail-safe SBC ensures that the microcontroller is always started up in a defined manner. In failure situations, the fail-safe SBC will maintain microcontroller functionality for as long as possible to provide full monitoring and a software-driven fall-back operation. The UJA1065 is designed for 14 V single power supply architectures and for 14 V and 42 V dual power supply architectures.    AAL Eindhoven MK
footprint SOT549-1
pins: 3 TXDL, 4 V1 (power), 5 RXDL (out), 6 !RST, 7 !INT (out), 8 EN, 9 SDI, 10 SDO, 11 SCK, 12 SCS, 13 TXDC, 14 RXDC (out), 16 TEST, 17 INH/LIMP (out), 18 WAKE, 20 V2 (power), 21 CANH, 22 CANL, 23 CP GND (power), 24 SPLIT (out), 25 LIN, 26 RTLIN, 27 BAT14 (power), 29 SYSINH (out), 30 V3 (power), 31 SENSE, 32 BAT42 (power)

## UJA1066TW
designator U?, comment High-speed CAN fail-safe system basis chip The UJA1066 fail-safe System Basis Chip (SBC) replaces basic discrete components which are common in every Electronic Control Unit (ECU) with a Controller Area Network (CAN) interface. The fail-safe SBC supports all networking applications that control various power and sensor peripherals by using high-speed CAN as the main network interface. The fail-safe SBC contains the following integrated devices: High-speed CAN transceiver, interoperable and downward compatible with CAN transceiver TJA1041 and TJA1041A, and compatible with the ISO 11898-2 standard and the ISO 11898-5 standard (in preparation)  Advanced independent watchdog  Dedicated voltage regulators for microcontroller and CAN transceiver  Serial peripheral interface (full duplex)  Local wake-up input port  Inhibit/limp-home output port   In addition to the advantages of integrating these common ECU functions in a single package, the fail-safe SBC offers an intelligent combination of system-specific functions such as: Advanced low-power concept  Safe and controlled system start-up behavior  Advanced fail-safe system behavior that prevents any conceivable deadlock  Detailed status reporting on system and subsystem levels   The UJA1066 is designed to be used in combination with a microcontroller that incorporates a CAN controller. The fail-safe SBC ensures that the microcontroller is always started up in a defined manner. In failure situations, the fail-safe SBC will maintain microcontroller functionality for as long as possible to provide a full monitoring and software-driven fallback operation. The UJA1066 is designed for 14 V single power supply architectures and for 14 V and 42 V dual power supply architectures.    AAL Eindhoven MK
footprint SOT549-1
pins: 4 V1 (power), 6 !RST, 7 !INT (out), 8 EN, 9 SDI, 10 SDO, 11 SCK, 12 SCS, 13 TXDC, 14 RXDC (out), 16 TEST, 17 INH/LIMP (out), 18 WAKE, 20 V2 (power), 21 CANH, 22 CANL, 23 CP GND (power), 24 SPLIT (out), 25 32 BAT42 (power), 27 BAT14 (power), 29 SYSINH (out), 30 V3 (power), 31 SENSE

## UJA1069TW
designator U?, comment LIN fail-safe system basis chip The UJA1069 fail-safe System Basis Chip (SBC) replaces basic discrete components which are common in every Electronic Control Unit (ECU) with a Local Interconnect Network (LIN) interface. The fail-safe SBC supports all networking applications which control various power and sensor peripherals by using LIN as a local sub-bus. The fail-safe SBC contains the following integrated devices: LIN transceiver compliant with LIN 2.0 and SAE J2602, and compatible with LIN 1.3  Advanced independent watchdog  Dedicated voltage regulator for microcontroller  Serial peripheral interface (full duplex)  Local wake-up input port  Inhibit/limp-home output port   In addition to the advantages of integrating these common ECU functions in a single package, the fail-safe SBC offers an intelligent combination of system-speciﬁc functions such as: Advanced low-power concept  Safe and controlled system start-up behavior  Advanced fail-safe system behavior that prevents any conceivable deadlock  Detailed status reporting on system and sub-system levels   The UJA1069 is designed to be used in combination with a microcontroller and a LIN controller. The fail-safe SBC ensures that the microcontroller is always started up in a deﬁned manner. In failure situations the fail-safe SBC will maintain the microcontroller function for as long as possible, to provide full monitoring and software driven fall-back operation. The UJA1069 is designed for 14 V single power supply architectures and for 14 V and 42 V dual power supply architectures.    AAL Eindhoven MK
footprint SOT549-1
pins: 3 TXDL, 4 V1 (power), 5 RXDL (out), 6 !RST, 7 !INT (out), 8 EN, 9 SDI, 10 SDO, 11 SCK, 12 SCS, 16 TEST, 17 INH/LIMP (out), 18 WAKE, 23 GND (power), 25 LIN, 26 RTLIN, 27 BAT14 (power), 29 SYSINH (out), 30 V3 (power), 31 SENSE, 32 BAT42 (power)

## UJA1069TW24
designator U?, comment LIN fail-safe system basis chip The UJA1069 fail-safe System Basis Chip (SBC) replaces basic discrete components which are common in every Electronic Control Unit (ECU) with a Local Interconnect Network (LIN) interface. The fail-safe SBC supports all networking applications which control various power and sensor peripherals by using LIN as a local sub-bus. The fail-safe SBC contains the following integrated devices: LIN transceiver compliant with LIN 2.0 and SAE J2602, and compatible with LIN 1.3  Advanced independent watchdog  Dedicated voltage regulator for microcontroller  Serial peripheral interface (full duplex)  Local wake-up input port  Inhibit/limp-home output port   In addition to the advantages of integrating these common ECU functions in a single package, the fail-safe SBC offers an intelligent combination of system-speciﬁc functions such as: Advanced low-power concept  Safe and controlled system start-up behavior  Advanced fail-safe system behavior that prevents any conceivable deadlock  Detailed status reporting on system and sub-system levels   The UJA1069 is designed to be used in combination with a microcontroller and a LIN controller. The fail-safe SBC ensures that the microcontroller is always started up in a deﬁned manner. In failure situations the fail-safe SBC will maintain the microcontroller function for as long as possible, to provide full monitoring and software driven fall-back operation. The UJA1069 is designed for 14 V single power supply architectures and for 14 V and 42 V dual power supply architectures.    AAL Eindhoven MK
footprint SOT864-1
pins: 2 TXDL, 3 V1 (power), 4 RXDL (out), 5 !RST, 6 !INT (out), 7 EN, 8 SDI, 9 SDO, 10 SCK, 11 SCS, 12 TEST, 13 INH/LIMP (out), 14 WAKE, 15 CP GND (power), 17 LIN, 18 RTLIN, 19 BAT14 (power), 21 SYSINH (out), 22 V3 (power), 23 SENSE, 24 BAT42 (power)

## Z0103MN
designator T?, comment 4Q Triac Planar passivated sensitive gate four quadrant triac in a SOT223 (SC-73) surface-mountable plastic package intended for applications requiring enhanced immunity to noise and direct interfacing to logic level ICs and low power gate drivers.    AAL Eindhoven MK
footprint SOT223
pins: 1 T1, 2 4 T2, 3 G

## Z0109MN
designator T?, comment 4Q Triac Planar passivated sensitive gate four quadrant triac in a SOT223 (SC-73) surface-mountable plastic package intended for applications requiring enhanced immunity to noise and direct interfacing to logic level ICs and low power gate drivers.    AAL Eindhoven MK
12NC: 9340 650 56135
footprint SOT223
pins: 1 T1, 2 4 T2, 3 G